# EAGLE library part SJ-43617-SMT-TR (library SJ-43617-SMT-TR)
3.5 mm, Right Angle, Mid Mount (SMT), 4 Conductors, 1 Internal Switch, Audio Jack Connector Source: Datasheet <https://www.sameskydevices.com/product/resource/sj-4361x-smt.pdf>
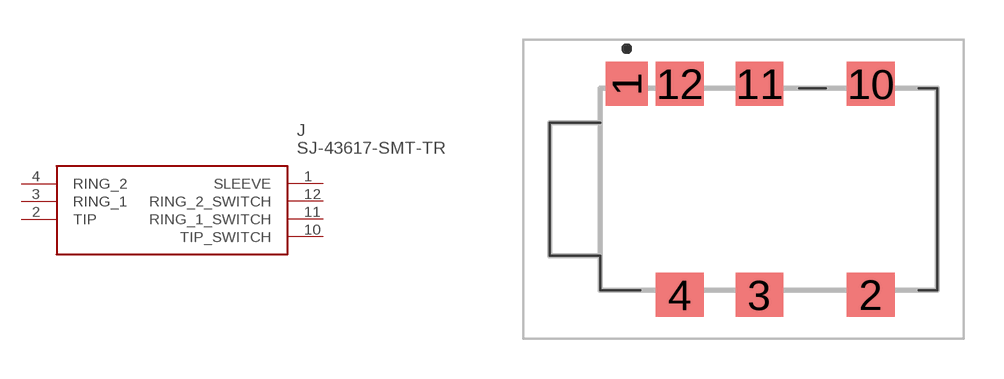
[diagram p0: symbol with the pads of SJ43617SMTTR; footprint SJ43617SMTTR]

Designator prefix J

## SJ-43617-SMT-TR (Description: 3.5 mm, Right Angle, Mid Mount (SMT), 4 Conductors, 1 Internal Switch, Audio Jack Connector; Height: 5.4mm; Manufacturer_Name: Same Sky; Manufacturer_Part_Number: SJ-43617-SMT-TR; Mouser_Part_Number: 490-SJ-43617-SMT-TR; Mouser_Price-Stock: https://www.mouser.co.uk/ProductDetail/Same-Sky/SJ-43617-SMT-TR?qs=WyjlAZoYn52vhGUiAWRAtA%3D%3D)  [SJ43617SMTTR]
1  SLEEVE
2  TIP
3  RING_1
4  RING_2
10  TIP_SWITCH
11  RING_1_SWITCH
12  RING_2_SWITCH

## Footprint SJ43617SMTTR (pad centres in mm)
SJ-43617-SMT-TR-3
smd 1.6 x 1.65: 1 -4.4,3.975
smd 1.8 x 1.65: 2 4.8,-3.975; 3 0.6,-3.975; 4 -2.4,-3.975; 10 4.8,3.975; 11 0.6,3.975; 12 -2.4,3.975